# Altium footprint library Capacitor_SMD.PcbLib: 89 footprints (part 1 of 6)
Each footprint in its own frame and in the unit in brackets; x right, y up, seen from the top. Pads: shape width x height; smd on the part's side, far side on the other; paste and mask are expansions set on the pad; w line width, h text height; cw(c..) or ccw(c..) is an arc to the next point about the centre after c.
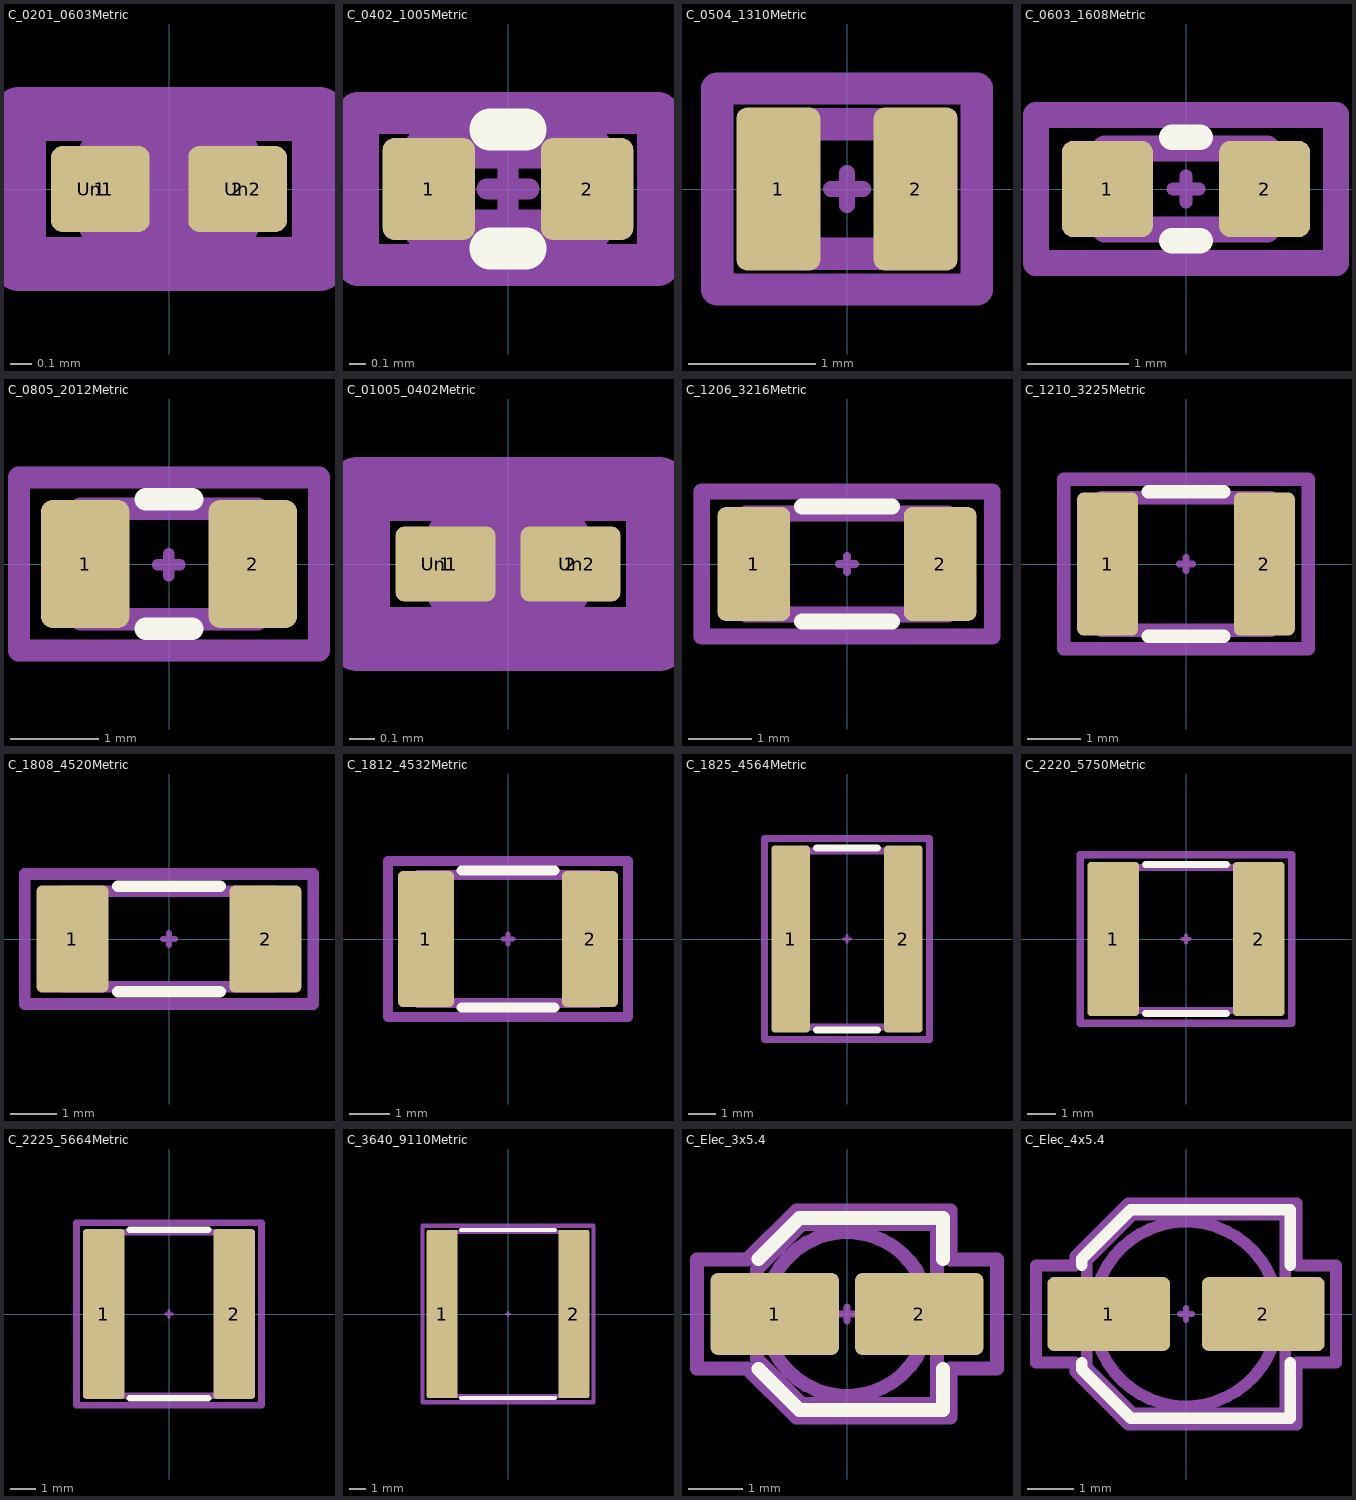
[diagram p0: the footprints below, top view; thin cyan lines are the x and y axes]

## C_0201_0603Metric [mm] "C_0201_0603Metric"
pads (4):
  rrect25% 0.46x0.4 smd: 1(-0.32,0) 2(0.32,0)
  rrect25% 0.318x0.36 on Top Paste: Un1(-0.345,0) Un2(0.345,0)
Top Component Center:
  lines w0.127: -0.127,0 0.127,0 ; 0,-0.127 0,0.127
Top Assembly:
  lines w0.254: -0.3,-0.15 0.3,-0.15 0.3,0.15 -0.3,0.15 -0.3,-0.15
Top Courtyard:
  lines w0.254: -0.7,-0.35 0.7,-0.35 0.7,0.35 -0.7,0.35 -0.7,-0.35
Top Designator:
  text ".Designator" at -1.126,-0.113 h0.5
3D body "C_0201_0603Metric.step": height 0.3, standoff 0, extent -0.357,-0.138 0.243,0.162

## C_0402_1005Metric [mm] "C_0402_1005Metric"
pads (2):
  rrect25% 0.56x0.62 smd: 1(-0.48,0) 2(0.48,0)
F.SilkS:
  lines w0.254: -0.108,-0.36 0.108,-0.36 ; -0.108,0.36 0.108,0.36
Top Component Center:
  lines w0.127: -0.127,0 0.127,0 ; 0,-0.127 0,0.127
Top Assembly:
  lines w0.254: -0.5,-0.25 -0.5,0.25 0.5,0.25 0.5,-0.25 -0.5,-0.25
Top Courtyard:
  lines w0.254: -0.91,-0.46 -0.91,0.46 0.91,0.46 0.91,-0.46 -0.91,-0.46
Top Designator:
  text ".Designator" at -1.126,-0.113 h0.5
3D body "C_0402_1005Metric.step": height 0.5, standoff 0, extent -0.454,-0.26 0.546,0.24

## C_0504_1310Metric [mm] "C_0504_1310Metric"
pads (2):
  rrect25% 0.66x1.28 smd: 1(-0.54,0) 2(0.54,0)
Top Component Center:
  lines w0.127: -0.127,0 0.127,0 ; 0,-0.127 0,0.127
Top Assembly:
  lines w0.254: -0.585,-0.51 -0.585,0.51 0.585,0.51 0.585,-0.51 -0.585,-0.51
Top Courtyard:
  lines w0.254: -1.02,-0.79 -1.02,0.79 1.02,0.79 1.02,-0.79 -1.02,-0.79
Top Designator:
  text ".Designator" at -1.126,-0.113 h0.5

## C_0603_1608Metric [mm] "C_0603_1608Metric"
pads (2):
  rrect25% 0.9x0.95 smd: 1(-0.775,0) 2(0.775,0)
F.SilkS:
  lines w0.254: -0.141,-0.51 0.141,-0.51 ; -0.141,0.51 0.141,0.51
Top Component Center:
  lines w0.127: -0.127,0 0.127,0 ; 0,-0.127 0,0.127
Top Assembly:
  lines w0.254: -0.8,-0.4 0.8,-0.4 0.8,0.4 -0.8,0.4 -0.8,-0.4
Top Courtyard:
  lines w0.254: -1.48,-0.73 1.48,-0.73 1.48,0.73 -1.48,0.73 -1.48,-0.73
Top Designator:
  text ".Designator" at -1.69,-0.17 h0.75
3D body "C_0603_1608Metric.step": height 0.8, standoff 0, extent -0.859,-0.381 0.741,0.419

## C_0805_2012Metric [mm] "C_0805_2012Metric"
pads (2):
  rrect25% 1x1.45 smd: 1(-0.95,0) 2(0.95,0)
F.SilkS:
  lines w0.254: -0.261,-0.735 0.261,-0.735 ; -0.261,0.735 0.261,0.735
Top Component Center:
  lines w0.127: -0.131,-0.008 0.123,-0.008 ; -0.004,-0.135 -0.004,0.119
Top Assembly:
  lines w0.254: -1,-0.625 1,-0.625 1,0.625 -1,0.625 -1,-0.625
Top Courtyard:
  lines w0.254: -1.7,-0.98 1.7,-0.98 1.7,0.98 -1.7,0.98 -1.7,-0.98
Top Designator:
  text ".Designator" at -2.253,-0.227 h1
3D body "C_0805_2012Metric.step": height 1.25, standoff 0, extent -1,-0.625 1,0.625

## C_01005_0402Metric [mm] "C_01005_0402Metric"
pads (4):
  rrect25% 0.4x0.3 smd: 1(-0.25,0) 2(0.25,0)
  rrect25% 0.27x0.27 on Top Paste: Un1(-0.275,0) Un2(0.275,0)
Top Component Center:
  lines w0.127: -0.127,0 0.127,0 ; 0,-0.127 0,0.127
Top Assembly:
  lines w0.254: -0.2,-0.1 -0.2,0.1 0.2,0.1 0.2,-0.1 -0.2,-0.1
Top Courtyard:
  lines w0.254: -0.6,-0.3 -0.6,0.3 0.6,0.3 0.6,-0.3 -0.6,-0.3
Top Designator:
  text ".Designator" at -1.126,-0.113 h0.5
3D body "C_01005_0402Metric.step": height 0.2, standoff 0, extent -0.2,-0.1 0.2,0.1

## C_1206_3216Metric [mm] "C_1206_3216Metric"
pads (2):
  rrect22% 1.15x1.8 smd: 1(-1.475,0) 2(1.475,0)
F.SilkS:
  lines w0.254: -0.711,-0.91 0.711,-0.91 ; -0.711,0.91 0.711,0.91
Top Component Center:
  lines w0.127: -0.127,0 0.127,0 ; 0,-0.127 0,0.127
Top Assembly:
  lines w0.254: -1.6,-0.8 1.6,-0.8 1.6,0.8 -1.6,0.8 -1.6,-0.8
Top Courtyard:
  lines w0.254: -2.3,-1.15 2.3,-1.15 2.3,1.15 -2.3,1.15 -2.3,-1.15
Top Designator:
  text ".Designator" at -3.379,-0.34 h1.5
3D body "C_1206_3216Metric.step": height 1.6, standoff 0, extent -1.6,-0.8 1.6,0.8

## C_1210_3225Metric [mm] "C_1210_3225Metric"
pads (2):
  rrect22% 1.15x2.7 smd: 1(-1.475,0) 2(1.475,0)
F.SilkS:
  lines w0.254: -0.711,-1.36 0.711,-1.36 ; -0.711,1.36 0.711,1.36
Top Component Center:
  lines w0.127: -0.127,0 0.127,0 ; 0,-0.127 0,0.127
Top Assembly:
  lines w0.254: -1.6,-1.25 -1.6,1.25 1.6,1.25 1.6,-1.25 -1.6,-1.25
Top Courtyard:
  lines w0.254: -2.3,-1.6 -2.3,1.6 2.3,1.6 2.3,-1.6 -2.3,-1.6
Top Designator:
  text ".Designator" at -3.379,-0.34 h1.5
3D body "C_1210_3225Metric.step": height 2.5, standoff 0, extent -1.6,-1.25 1.6,1.25

## C_1808_4520Metric [mm] "C_1808_4520Metric"
pads (2):
  rrect16% 1.55x2.3 smd: 1(-2.075,0) 2(2.075,0)
F.SilkS:
  lines w0.254: -1.097,-1.135 1.097,-1.135 ; -1.097,1.135 1.097,1.135
Top Component Center:
  lines w0.127: -0.127,0 0.127,0 ; 0,-0.127 0,0.127
Top Assembly:
  lines w0.254: -2.275,-1.025 -2.275,1.025 2.275,1.025 2.275,-1.025 -2.275,-1.025
Top Courtyard:
  lines w0.254: -3.1,-1.4 -3.1,1.4 3.1,1.4 3.1,-1.4 -3.1,-1.4
Top Designator:
  text ".Designator" at -3.379,-0.34 h1.5
3D body "C_1808_4520Metric.step": height 1.3, standoff 0, extent -2.25,-1 2.25,1

## C_1812_4532Metric [mm] "C_1812_4532Metric"
pads (2):
  rrect18% 1.4x3.4 smd: 1(-2.05,0) 2(2.05,0)
F.SilkS:
  lines w0.254: -1.161,-1.71 1.161,-1.71 ; -1.161,1.71 1.161,1.71
Top Component Center:
  lines w0.127: -0.127,0 0.127,0 ; 0,-0.127 0,0.127
Top Assembly:
  lines w0.254: -2.25,-1.6 2.25,-1.6 2.25,1.6 -2.25,1.6 -2.25,-1.6
Top Courtyard:
  lines w0.254: -3,-1.95 3,-1.95 3,1.95 -3,1.95 -3,-1.95
Top Designator:
  text ".Designator" at -3.379,-0.34 h1.5
3D body "C_1812_4532Metric.step": height 2.5, standoff 0, extent -2.25,-1.6 2.25,1.6

## C_1825_4564Metric [mm] "C_1825_4564Metric"
pads (2):
  rrect18% 1.4x6.8 smd: 1(-2.05,0) 2(2.05,0)
F.SilkS:
  lines w0.254: -1.116,-3.31 1.116,-3.31 ; -1.116,3.31 1.116,3.31
Top Component Center:
  lines w0.127: -0.127,0 0.127,0 ; 0,-0.127 0,0.127
Top Assembly:
  lines w0.254: -2.25,-3.2 2.25,-3.2 2.25,3.2 -2.25,3.2 -2.25,-3.2
Top Courtyard:
  lines w0.254: -3,-3.65 3,-3.65 3,3.65 -3,3.65 -3,-3.65
Top Designator:
  text ".Designator" at -3.379,-0.34 h1.5
3D body "C_1825_4564Metric.step": height 2.5, standoff 0, extent -2.25,-3.2 2.25,3.2

## C_2220_5750Metric [mm] "C_2220_5750Metric"
pads (2):
  rrect14% 1.8x5.4 smd: 1(-2.55,0) 2(2.55,0)
F.SilkS:
  lines w0.254: -1.416,-2.61 1.416,-2.61 ; -1.416,2.61 1.416,2.61
Top Component Center:
  lines w0.127: -0.127,0 0.127,0 ; 0,-0.127 0,0.127
Top Assembly:
  lines w0.254: -2.85,-2.5 2.85,-2.5 2.85,2.5 -2.85,2.5 -2.85,-2.5
Top Courtyard:
  lines w0.254: -3.7,-2.95 3.7,-2.95 3.7,2.95 -3.7,2.95 -3.7,-2.95
Top Designator:
  text ".Designator" at -3.379,-0.34 h1.5
3D body "C_2220_5750Metric.step": height 2.9, standoff 0, extent -2.85,-2.5 2.85,2.5

## C_2225_5664Metric [mm] "C_2225_5664Metric"
pads (2):
  rrect15% 1.625x6.6 smd: 1(-2.538,0) 2(2.538,0)
F.SilkS:
  lines w0.254: -1.522,-3.285 1.522,-3.285 ; -1.522,3.285 1.522,3.285
Top Component Center:
  lines w0.127: -0.127,0 0.127,0 ; 0,-0.127 0,0.127
Top Assembly:
  lines w0.254: -2.86,-3.175 2.86,-3.175 2.86,3.175 -2.86,3.175 -2.86,-3.175
Top Courtyard:
  lines w0.254: -3.6,-3.55 3.6,-3.55 3.6,3.55 -3.6,3.55 -3.6,-3.55
Top Designator:
  text ".Designator" at -3.379,-0.34 h1.5
3D body "C_2225_5664Metric.step": height 3.4, standoff 0, extent -2.8,-3.2 2.8,3.2

## C_3640_9110Metric [mm] "C_3640_9110Metric"
pads (2):
  rrect13% 1.925x10.45 smd: 1(-4.088,0) 2(4.088,0)
F.SilkS:
  lines w0.254: -2.922,-5.21 2.922,-5.21 ; -2.922,5.21 2.922,5.21
Top Component Center:
  lines w0.127: -0.127,0 0.127,0 ; 0,-0.127 0,0.127
Top Assembly:
  lines w0.254: -4.57,-5.1 4.57,-5.1 4.57,5.1 -4.57,5.1 -4.57,-5.1
Top Courtyard:
  lines w0.254: -5.3,-5.48 5.3,-5.48 5.3,5.48 -5.3,5.48 -5.3,-5.48
Top Designator:
  text ".Designator" at -3.434,-0.345 h1.52
3D body "C_3640_9110Metric.step": height 2.54, standoff 0, extent -4.57,-5.1 4.57,5.1

## C_Elec_3x5.4 [mm] "C_Elec_3x5.4"
pads (2):
  rrect17% 2.35x1.5 smd: 1(-1.325,0) 2(1.325,0)
F.SilkS:
  lines w0.254: -1.621,-1.01 -0.871,-1.76 1.76,-1.76 1.76,-1.01 ; -1.621,1.01 -0.871,1.76 1.76,1.76 1.76,1.01
Top Component Center:
  lines w0.127: -0.127,0 0.127,0 ; 0,-0.127 0,0.127
Top Assembly:
  circle w0.254: c0,0 r1.5
  lines w0.254: -1.65,-0.825 -1.65,0.825 -0.825,1.65 1.65,1.65 1.65,-1.65 -0.825,-1.65 -1.65,-0.825
Top Courtyard:
  lines w0.254: -2.75,-1 -2.75,1 -1.83,1 -0.93,1.9 1.9,1.9 1.9,1 2.75,1 2.75,-1 1.9,-1 1.9,-1.9 -0.93,-1.9 -1.83,-1 -2.75,-1
Top Designator:
  text ".Designator" at -2.253,-0.227 h1
3D body "C_Elec_3x5.4.step": height 5.4, standoff 0, extent -1.9,-1.65 1.9,1.65

## C_Elec_4x5.4 [mm] "C_Elec_4x5.4"
pads (2):
  rrect16% 2.65x1.6 smd: 1(-1.675,0) 2(1.675,0)
F.SilkS:
  lines w0.254: -2.26,-1.06 -2.26,-1.196 -1.196,-2.26 2.26,-2.26 2.26,-1.06 ; -2.26,1.06 -2.26,1.196 -1.196,2.26 2.26,2.26 2.26,1.06
Top Component Center:
  lines w0.127: -0.127,0 0.127,0 ; 0,-0.127 0,0.127
Top Assembly:
  circle w0.254: c0,0 r2
  lines w0.254: -2.15,-1.15 -2.15,1.15 -1.15,2.15 2.15,2.15 2.15,-2.15 -1.15,-2.15 -2.15,-1.15
Top Courtyard:
  lines w0.254: -3.25,-1.05 -3.25,1.05 -2.4,1.05 -2.4,1.25 -1.25,2.4 2.4,2.4 2.4,1.05 3.25,1.05 3.25,-1.05 2.4,-1.05 2.4,-2.4 -1.25,-2.4 -2.4,-1.25 -2.4,-1.05 -3.25,-1.05
Top Designator:
  text ".Designator" at -3.379,-0.34 h1.5
3D body "C_Elec_4x5.4.step": height 5.4, standoff 0, extent -2.75,-2.15 2.75,2.15